# Altium footprint library GDTs_THT.PcbLib: 1 footprints
Each footprint in its own frame and in the unit in brackets; x right, y up, seen from the top. Pads: shape width x height; smd on the part's side, far side on the other; paste and mask are expansions set on the pad; w line width, h text height; cw(c..) or ccw(c..) is an arc to the next point about the centre after c.
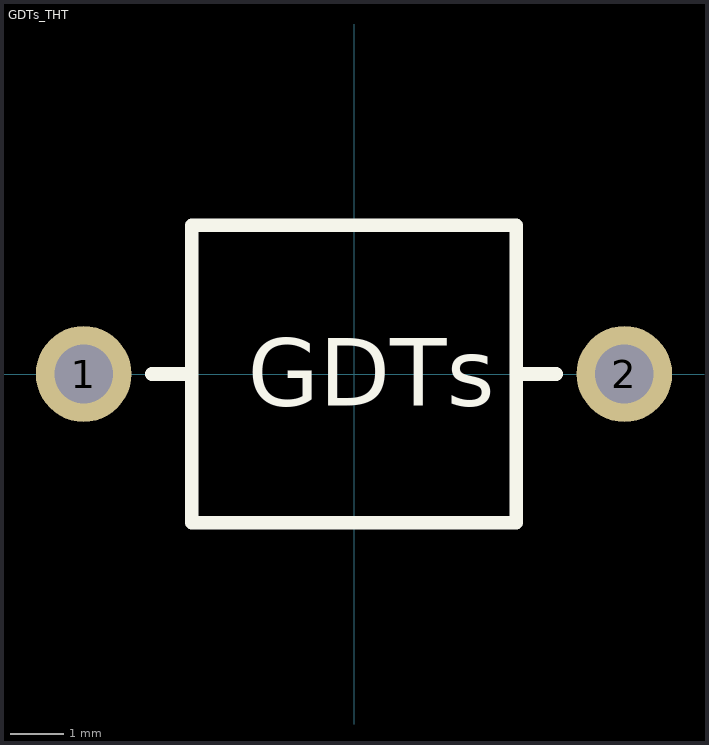
[diagram p0: the footprint, top view; thin cyan lines are the x and y axes]

## GDTs_THT [mm]
pads (2):
  round 1.8 hole 1.1: 1(-5.08,0) 2(5.08,0)
Top Overlay:
  lines w0.254: -3.8,0 -3.048,0 ; 3.048,0 3.8,0 ; -3.048,-2.794 3.048,-2.794 3.048,2.794 -3.048,2.794 -3.048,-2.794
  text "GDTs" at -2,-0.6 h1.27